# Altium schematic symbol library Schematic_library_ATMEGA8A.SchLib: 1 symbol
Pins are listed as number, name and electrical type; pins without a type are passive.

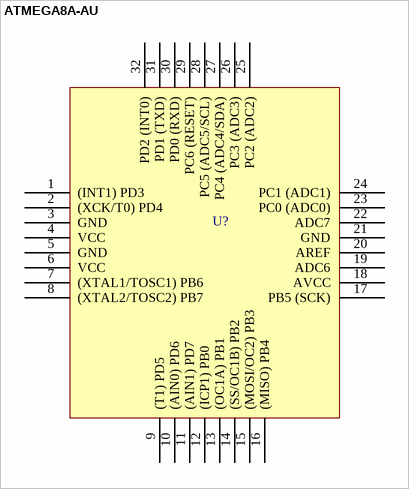
[diagram p0: symbol ATMEGA8A-AU]

## ATMEGA8A-AU
designator U?, comment ATMEGA8A-AU_C16190  (value not drawn)
8KB 1KB FLASH 23 2.7V~5.5V AVR 16MHz TQFP-32(7x7) Microcontrollers (MCU/MPU/SOC) ROHS; Manufacturer: Microchip Tech; ComponentLink1Description: Datasheet; ComponentLink1URL: https://www.lcsc.com/datasheet/lcsc_datasheet_1810161120_Microchip-Tech-ATMEGA8A-AU_C16190.pdf; Manufacturer part number: ATMEGA8A-AU; supplier: LCSC; Supplier part number: C16190
footprint TQFP80P900X900X120-32N (TQFP, 32-Leads, Body 7.00x7.00mm, Pitch 0.80mm, IPC Medium Density)
pins: 1 (INT1) PD3, 2 (XCK/T0) PD4, 3 GND, 4 VCC, 5 GND, 6 VCC, 7 (XTAL1/TOSC1) PB6, 8 (XTAL2/TOSC2) PB7, 9 (T1) PD5, 10 (AIN0) PD6, 11 (AIN1) PD7, 12 (ICP1) PB0, 13 (OC1A) PB1, 14 (SS/OC1B) PB2, 15 (MOSI/OC2) PB3, 16 (MISO) PB4, 17 PB5 (SCK), 18 AVCC, 19 ADC6, 20 AREF, 21 GND, 22 ADC7, 23 PC0 (ADC0), 24 PC1 (ADC1), 25 PC2 (ADC2), 26 PC3 (ADC3), 27 PC4 (ADC4/SDA), 28 PC5 (ADC5/SCL), 29 PC6 (RESET), 30 PD0 (RXD), 31 PD1 (TXD), 32 PD2 (INT0)